# Altium footprint library 1727052.PcbLib: 1 footprints
Each footprint in its own frame and in the unit in brackets; x right, y up, seen from the top. Pads: shape width x height; smd on the part's side, far side on the other; paste and mask are expansions set on the pad; w line width, h text height; cw(c..) or ccw(c..) is an arc to the next point about the centre after c.
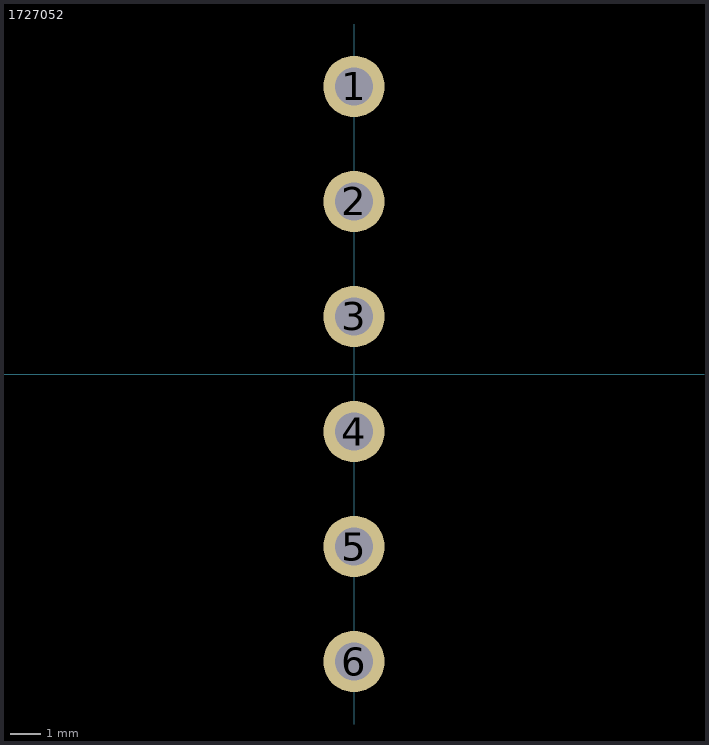
[diagram p0: the footprint, top view; thin cyan lines are the x and y axes]

## 1727052 [mil]
pads (6):
  round 80 hole 50: 1(0,375) 2(0,225) 3(0,75) 4(0,-75) 5(0,-225) 6(0,-375)
3D body: height 336.65, standoff -135.8, extent -145,-450 142.4,450